# Altium footprint library Leadless.PcbLib: 132 footprints (part 6 of 9)
Each footprint in its own frame and in the unit in brackets; x right, y up, seen from the top. Pads: shape width x height; smd on the part's side, far side on the other; paste and mask are expansions set on the pad; w line width, h text height; cw(c..) or ccw(c..) is an arc to the next point about the centre after c.
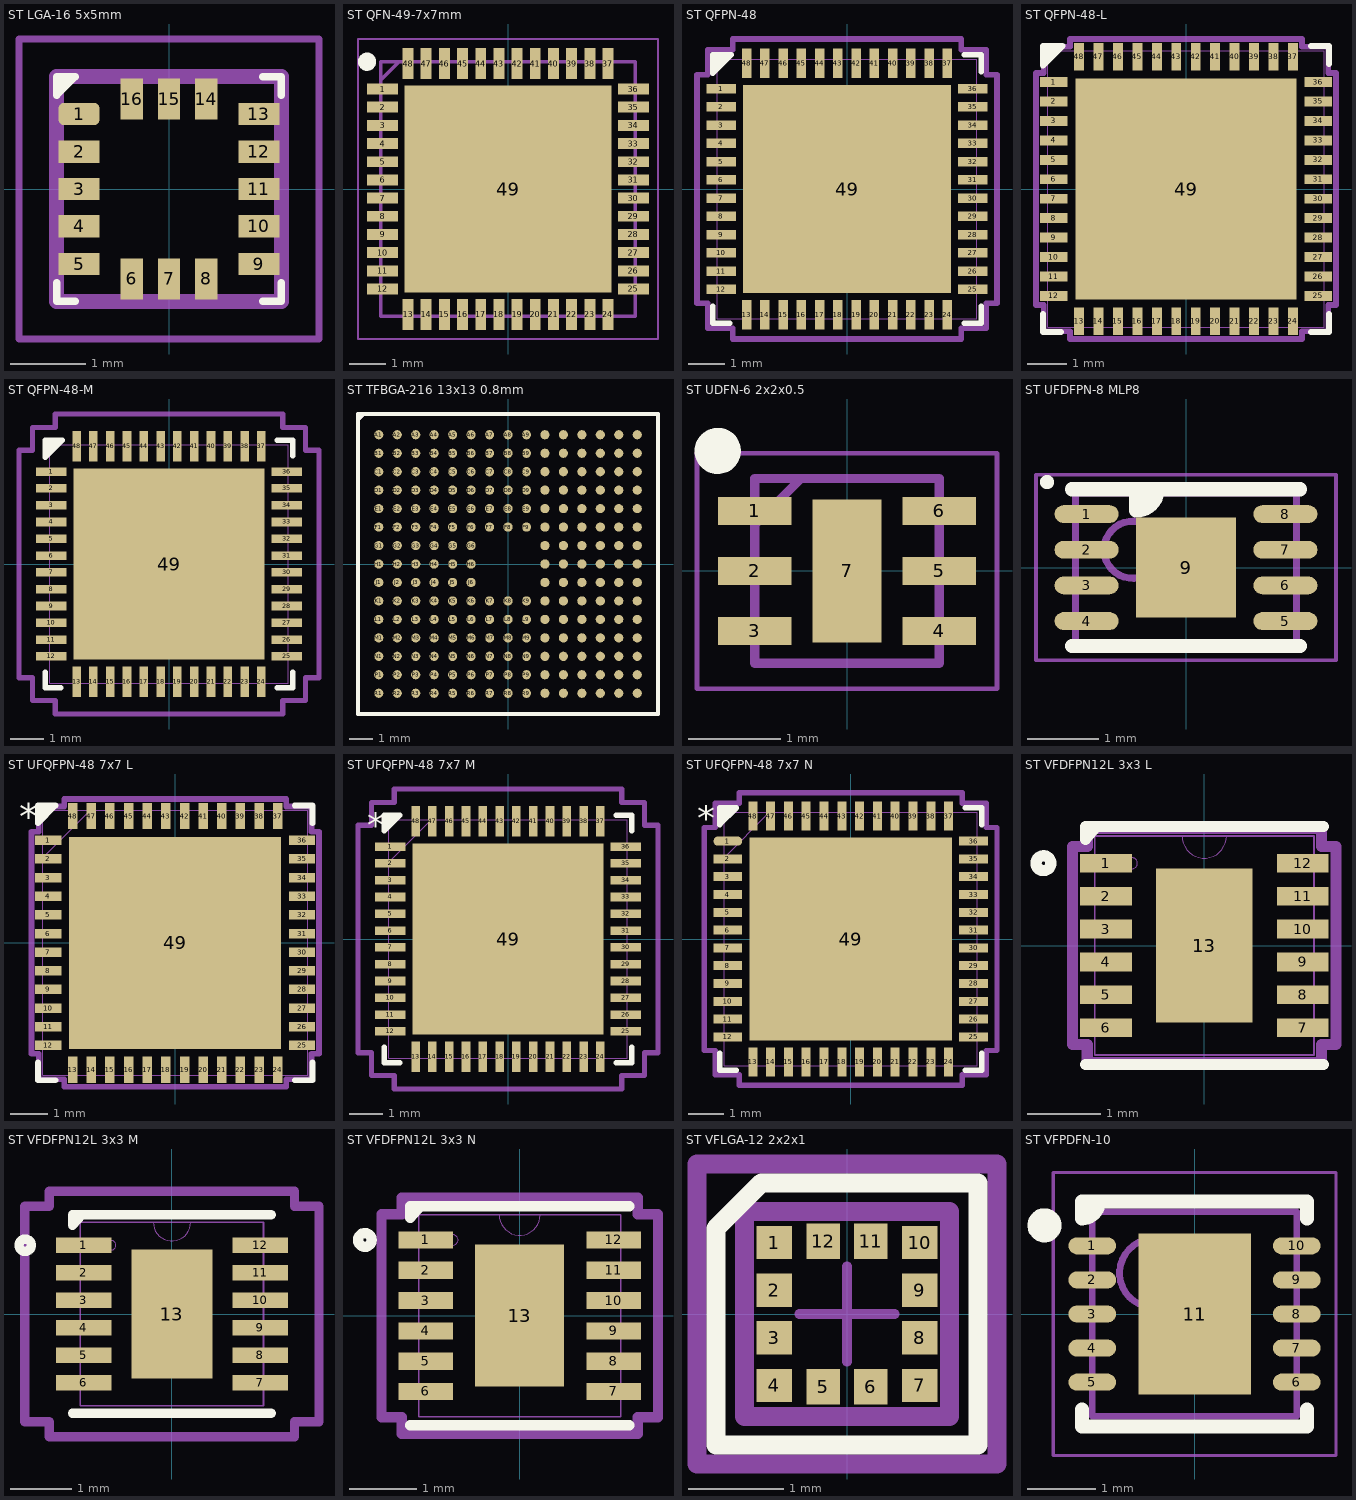
[diagram p5: the footprints below, top view; thin cyan lines are the x and y axes]

## ST LGA-16 5x5mm [mm]
height 1.7
pads (16):
  rrect50% 0.55x0.3 smd: 1(-1.2,1)
  rect 0.55x0.3 smd: 2(-1.2,0.5) 3(-1.2,0) 4(-1.2,-0.5) 5(-1.2,-1) 9(1.2,-1) 10(1.2,-0.5) 11(1.2,0) 12(1.2,0.5) 13(1.2,1)
  rect 0.3x0.55 smd: 6(-0.5,-1.2) 7(0,-1.2) 8(0.5,-1.2) 14(0.5,1.2) 15(0,1.2) 16(-0.5,1.2)
Top Overlay:
  lines w0.1: -1.5,-1.25 -1.5,-1.5 -1.25,-1.5 ; -1.375,1.5 -1.5,1.375 ; 1.25,-1.5 1.5,-1.5 1.5,-1.25 ; 1.25,1.5 1.5,1.5 1.5,1.25 ; -1.5,1.375 -1.5,1.375 ; -1.5,1.25 -1.25,1.5 -1.5,1.5 -1.5,1.25
Top Component Outline:
  lines w0.2: -1.5,-1.5 1.5,-1.5 1.5,1.5 -1.5,1.5 -1.5,-1.5
Top Courtyard:
  lines w0.1: -2,-2 2,-2 2,2 -2,2 -2,-2
3D body "User Library-LIS331AL.step": height 1.01, standoff -0.01, extent -1.5,-1.5 1.5,1.5

## ST QFN-49-7x7mm [mm]
pads (49):
  rect 0.85x0.3 smd: 1(-3.45,2.75) 2(-3.45,2.25) 3(-3.45,1.75) 4(-3.45,1.25) 5(-3.45,0.75) 6(-3.45,0.25) 7(-3.45,-0.25) 8(-3.45,-0.75) 9(-3.45,-1.25) 10(-3.45,-1.75) 11(-3.45,-2.25) 12(-3.45,-2.75) 25(3.45,-2.75) 26(3.45,-2.25) 27(3.45,-1.75) 28(3.45,-1.25) 29(3.45,-0.75) 30(3.45,-0.25) 31(3.45,0.25) 32(3.45,0.75) 33(3.45,1.25) 34(3.45,1.75) 35(3.45,2.25) 36(3.45,2.75)
  rect 0.3x0.85 smd: 13(-2.75,-3.45) 14(-2.25,-3.45) 15(-1.75,-3.45) 16(-1.25,-3.45) 17(-0.75,-3.45) 18(-0.25,-3.45) 19(0.25,-3.45) 20(0.75,-3.45) 21(1.25,-3.45) 22(1.75,-3.45) 23(2.25,-3.45) 24(2.75,-3.45) 37(2.75,3.45) 38(2.25,3.45) 39(1.75,3.45) 40(1.25,3.45) 41(0.75,3.45) 42(0.25,3.45) 43(-0.25,3.45) 44(-0.75,3.45) 45(-1.25,3.45) 46(-1.75,3.45) 47(-2.25,3.45) 48(-2.75,3.45)
  rect 5.7x5.7 smd: 49(0,0)
Top Overlay:
  circle w0.25: c-3.875,3.5 r0.125
Top Component Outline:
  lines w0.1: -3.5,3 -3,3.5 ; -3.5,-3.5 -3.5,3.5 3.5,3.5 3.5,-3.5 -3.5,-3.5
Top Courtyard:
  lines w0.05: -4.125,-4.125 -4.125,4.125 4.125,4.125 4.125,-4.125 -4.125,-4.125
3D body "STM32WL55CCU6.stp": height 0.65, standoff 0, extent -3.55,-3.55 3.55,3.55

## ST QFPN-48 [mil] "ST Microelectronics QFPN footprint"
height 23.62
pads (49):
  rect 31.81x10.03 smd paste+0 mask+0: 1(-135.91,108.3) 2(-135.91,88.61) 3(-135.91,68.92) 4(-135.91,49.23) 5(-135.91,29.54) 6(-135.91,9.85) 7(-135.91,-9.85) 8(-135.91,-29.54) 9(-135.91,-49.23) 10(-135.91,-68.92) 11(-135.91,-88.61) 12(-135.91,-108.3) 25(135.91,-108.3) 26(135.91,-88.61) 27(135.91,-68.92) 28(135.91,-49.23) 29(135.91,-29.54) 30(135.91,-9.85) 31(135.91,9.85) 32(135.91,29.54) 33(135.91,49.23) 34(135.91,68.92) 35(135.91,88.61) 36(135.91,108.3)
  rect 10.03x31.81 smd paste+0 mask+0: 13(-108.3,-135.91) 14(-88.61,-135.91) 15(-68.92,-135.91) 16(-49.23,-135.91) 17(-29.54,-135.91) 18(-9.85,-135.91) 19(9.85,-135.91) 20(29.54,-135.91) 21(49.23,-135.91) 22(68.92,-135.91) 23(88.61,-135.91) 24(108.3,-135.91) 37(108.3,135.91) 38(88.61,135.91) 39(68.92,135.91) 40(49.23,135.91) 41(29.54,135.91) 42(9.85,135.91) 43(-9.85,135.91) 44(-29.54,135.91) 45(-49.23,135.91) 46(-68.92,135.91) 47(-88.61,135.91) 48(-108.3,135.91)
  rect 224x224 smd paste-111.5 mask+0: 49(0,0)
Top Overlay:
  lines w5.98: -145,124.87 -124.87,145 ; -144.36,130.42 -130.42,144.36 ; -144.36,137.39 -137.39,144.36
  lines w6: -145,-126.41 -145,-145 -126.41,-145 ; -145,124.87 -145,145 -124.87,145 ; 126.41,-145 145,-145 145,-126.41 ; 126.41,145 145,145 145,126.41
Top Paste:
  region: 108.06,-59.94 59.94,-59.94 59.94,-108.06 108.06,-108.06
  region: 108.06,-3.94 59.94,-3.94 59.94,-52.06 108.06,-52.06
  region: 108.06,52.06 59.94,52.06 59.94,3.94 108.06,3.94
  region: 108.06,108.06 59.94,108.06 59.94,59.94 108.06,59.94
  region: 52.06,-59.94 3.94,-59.94 3.94,-108.06 52.06,-108.06
  region: 52.06,-3.94 3.94,-3.94 3.94,-52.06 52.06,-52.06
  region: 52.06,52.06 3.94,52.06 3.94,3.94 52.06,3.94
  region: 52.06,108.06 3.94,108.06 3.94,59.94 52.06,59.94
  region: -3.94,-59.94 -52.06,-59.94 -52.06,-108.06 -3.94,-108.06
  region: -3.94,-3.94 -52.06,-3.94 -52.06,-52.06 -3.94,-52.06
  region: -3.94,52.06 -52.06,52.06 -52.06,3.94 -3.94,3.94
  region: -3.94,108.06 -52.06,108.06 -52.06,59.94 -3.94,59.94
  region: -59.94,-59.94 -108.06,-59.94 -108.06,-108.06 -59.94,-108.06
  region: -59.94,-3.94 -108.06,-3.94 -108.06,-52.06 -59.94,-52.06
  region: -59.94,52.06 -108.06,52.06 -108.06,3.94 -59.94,3.94
  region: -59.94,108.06 -108.06,108.06 -108.06,59.94 -59.94,59.94
Assembly Notes:
  lines w1: -140,-140 -140,140 140,140 140,-140 -140,-140 ; -140,-114.3 -140,-102.3 -140,-114.3 ; -140,-94.61 -140,-82.61 -140,-94.61 ; -140,-74.92 -140,-62.91 -140,-74.92 ; -140,-55.23 -140,-43.23 -140,-55.23 ; -140,-35.53 -140,-23.54 -140,-35.53 ; -140,-15.85 -140,-3.85 -140,-15.85 ; -140,3.85 -140,15.85 -140,3.85 ; -140,23.54 -140,35.53 -140,23.54 ; -140,43.23 -140,55.23 -140,43.23 ; -140,62.91 -140,74.92 -140,62.91 ; -140,82.61 -140,94.61 -140,82.61 ; -140,102.3 -140,114.3 -140,102.3 ; -114.3,-140 -102.3,-140 -114.3,-140 ; -114.3,140 -102.3,140 -114.3,140 ; -94.61,-140 -82.61,-140 -94.61,-140 ; -94.61,140 -82.61,140 -94.61,140 ; -74.92,-140 -62.91,-140 -74.92,-140 ; -74.92,140 -62.91,140 -74.92,140 ; -55.23,-140 -43.23,-140 -55.23,-140 ; -55.23,140 -43.23,140 -55.23,140 ; -35.53,-140 -23.54,-140 -35.53,-140 ; -35.53,140 -23.54,140 -35.53,140 ; -15.85,-140 -3.85,-140 -15.85,-140 ; -15.85,140 -3.85,140 -15.85,140 ; 3.85,-140 15.85,-140 3.85,-140 ; 3.85,140 15.85,140 3.85,140 ; 23.54,-140 35.53,-140 23.54,-140 ; 23.54,140 35.53,140 23.54,140 ; 43.23,-140 55.23,-140 43.23,-140 ; 43.23,140 55.23,140 43.23,140 ; 62.91,-140 74.92,-140 62.91,-140 ; 62.91,140 74.92,140 62.91,140 ; 82.61,-140 94.61,-140 82.61,-140 ; 82.61,140 94.61,140 82.61,140 ; 102.3,-140 114.3,-140 102.3,-140 ; 102.3,140 114.3,140 102.3,140 ; 140,-114.3 140,-102.3 140,-114.3 ; 140,-94.61 140,-82.61 140,-94.61 ; 140,-74.92 140,-62.91 140,-74.92 ; 140,-55.23 140,-43.23 140,-55.23 ; 140,-35.53 140,-23.54 140,-35.53 ; 140,-15.85 140,-3.85 140,-15.85 ; 140,3.85 140,15.85 140,3.85 ; 140,23.54 140,35.53 140,23.54 ; 140,43.23 140,55.23 140,43.23 ; 140,62.91 140,74.92 140,62.91 ; 140,82.61 140,94.61 140,82.61 ; 140,102.3 140,114.3 140,102.3
Dimensions:
  lines w6: -161.81,-123.31 -161.81,123.31 -150,123.31 -150,150 -123.31,150 -123.31,161.81 123.31,161.81 123.31,150 150,150 150,123.31 161.81,123.31 161.81,-123.31 150,-123.31 150,-150 123.31,-150 123.31,-161.81 -123.31,-161.81 -123.31,-150 -150,-150 -150,-123.31 -161.81,-123.31
3D body "ST QFN-48.step": height 24.09, standoff 0, extent -140,-139.99 140,140.01
3D body: height 10, standoff 0, extent 0,0 10,10

## ST QFPN-48-L [mil] "ST Microelectronics QFPN footprint"
height 23.62
pads (49):
  rect 27.87x10.03 smd paste+0 mask+0: 1(-133.94,108.3) 2(-133.94,88.61) 3(-133.94,68.92) 4(-133.94,49.23) 5(-133.94,29.54) 6(-133.94,9.85) 7(-133.94,-9.85) 8(-133.94,-29.54) 9(-133.94,-49.23) 10(-133.94,-68.92) 11(-133.94,-88.61) 12(-133.94,-108.3) 25(133.94,-108.3) 26(133.94,-88.61) 27(133.94,-68.92) 28(133.94,-49.23) 29(133.94,-29.54) 30(133.94,-9.85) 31(133.94,9.85) 32(133.94,29.54) 33(133.94,49.23) 34(133.94,68.92) 35(133.94,88.61) 36(133.94,108.3)
  rect 10.03x27.87 smd paste+0 mask+0: 13(-108.3,-133.94) 14(-88.61,-133.94) 15(-68.92,-133.94) 16(-49.23,-133.94) 17(-29.54,-133.94) 18(-9.85,-133.94) 19(9.85,-133.94) 20(29.54,-133.94) 21(49.23,-133.94) 22(68.92,-133.94) 23(88.61,-133.94) 24(108.3,-133.94) 37(108.3,133.94) 38(88.61,133.94) 39(68.92,133.94) 40(49.23,133.94) 41(29.54,133.94) 42(9.85,133.94) 43(-9.85,133.94) 44(-29.54,133.94) 45(-49.23,133.94) 46(-68.92,133.94) 47(-88.61,133.94) 48(-108.3,133.94)
  rect 224x224 smd paste-111.5 mask+0: 49(0,0)
Top Overlay:
  lines w5.98: -145,124.87 -124.87,145 ; -144.36,130.42 -130.42,144.36 ; -144.36,137.39 -137.39,144.36
  lines w6: -145,-126.41 -145,-145 -126.41,-145 ; -145,124.87 -145,145 -124.87,145 ; 126.41,-145 145,-145 145,-126.41 ; 126.41,145 145,145 145,126.41
Top Paste:
  region: -59.94,108.06 -108.06,108.06 -108.06,59.94 -59.94,59.94
  region: -59.94,52.06 -108.06,52.06 -108.06,3.94 -59.94,3.94
  region: -59.94,-3.94 -108.06,-3.94 -108.06,-52.06 -59.94,-52.06
  region: -59.94,-59.94 -108.06,-59.94 -108.06,-108.06 -59.94,-108.06
  region: -3.94,108.06 -52.06,108.06 -52.06,59.94 -3.94,59.94
  region: -3.94,52.06 -52.06,52.06 -52.06,3.94 -3.94,3.94
  region: -3.94,-3.94 -52.06,-3.94 -52.06,-52.06 -3.94,-52.06
  region: -3.94,-59.94 -52.06,-59.94 -52.06,-108.06 -3.94,-108.06
  region: 52.06,108.06 3.94,108.06 3.94,59.94 52.06,59.94
  region: 52.06,52.06 3.94,52.06 3.94,3.94 52.06,3.94
  region: 52.06,-3.94 3.94,-3.94 3.94,-52.06 52.06,-52.06
  region: 52.06,-59.94 3.94,-59.94 3.94,-108.06 52.06,-108.06
  region: 108.06,108.06 59.94,108.06 59.94,59.94 108.06,59.94
  region: 108.06,52.06 59.94,52.06 59.94,3.94 108.06,3.94
  region: 108.06,-3.94 59.94,-3.94 59.94,-52.06 108.06,-52.06
  region: 108.06,-59.94 59.94,-59.94 59.94,-108.06 108.06,-108.06
Assembly Notes:
  lines w1: -140,-140 140,-140 140,140 -140,140 -140,-140 ; -140,-114.3 -140,-102.3 -140,-114.3 ; -140,-94.61 -140,-82.61 -140,-94.61 ; -140,-74.92 -140,-62.91 -140,-74.92 ; -140,-55.23 -140,-43.23 -140,-55.23 ; -140,-35.53 -140,-23.54 -140,-35.53 ; -140,-15.85 -140,-3.85 -140,-15.85 ; -140,3.85 -140,15.85 -140,3.85 ; -140,23.54 -140,35.53 -140,23.54 ; -140,43.23 -140,55.23 -140,43.23 ; -140,62.91 -140,74.92 -140,62.91 ; -140,82.61 -140,94.61 -140,82.61 ; -140,102.3 -140,114.3 -140,102.3 ; -114.3,-140 -102.3,-140 -114.3,-140 ; -114.3,140 -102.3,140 -114.3,140 ; -94.61,-140 -82.61,-140 -94.61,-140 ; -94.61,140 -82.61,140 -94.61,140 ; -74.92,-140 -62.91,-140 -74.92,-140 ; -74.92,140 -62.91,140 -74.92,140 ; -55.23,-140 -43.23,-140 -55.23,-140 ; -55.23,140 -43.23,140 -55.23,140 ; -35.53,-140 -23.54,-140 -35.53,-140 ; -35.53,140 -23.54,140 -35.53,140 ; -15.85,-140 -3.85,-140 -15.85,-140 ; -15.85,140 -3.85,140 -15.85,140 ; 3.85,-140 15.85,-140 3.85,-140 ; 3.85,140 15.85,140 3.85,140 ; 23.54,-140 35.53,-140 23.54,-140 ; 23.54,140 35.53,140 23.54,140 ; 43.23,-140 55.23,-140 43.23,-140 ; 43.23,140 55.23,140 43.23,140 ; 62.91,-140 74.92,-140 62.91,-140 ; 62.91,140 74.92,140 62.91,140 ; 82.61,-140 94.61,-140 82.61,-140 ; 82.61,140 94.61,140 82.61,140 ; 102.3,-140 114.3,-140 102.3,-140 ; 102.3,140 114.3,140 102.3,140 ; 140,-114.3 140,-102.3 140,-114.3 ; 140,-94.61 140,-82.61 140,-94.61 ; 140,-74.92 140,-62.91 140,-74.92 ; 140,-55.23 140,-43.23 140,-55.23 ; 140,-35.53 140,-23.54 140,-35.53 ; 140,-15.85 140,-3.85 140,-15.85 ; 140,3.85 140,15.85 140,3.85 ; 140,23.54 140,35.53 140,23.54 ; 140,43.23 140,55.23 140,43.23 ; 140,62.91 140,74.92 140,62.91 ; 140,82.61 140,94.61 140,82.61 ; 140,102.3 140,114.3 140,102.3
Dimensions:
  lines w6: -151.87,-117.31 -144,-117.31 -144,-144 -117.31,-144 -117.31,-151.87 117.31,-151.87 117.31,-144 144,-144 144,-117.31 151.87,-117.31 151.87,117.31 144,117.31 144,144 117.31,144 117.31,151.87 -117.31,151.87 -117.31,144 -144,144 -144,117.31 -151.87,117.31 -151.87,-117.31
3D body: height 10, standoff 0, extent 0,0 10,10
3D body "ST QFN-48.step": height 24.09, standoff 0, extent -139.99,-139.99 140.01,140.01

## ST QFPN-48-M [mil] "ST Microelectronics QFPN footprint"
height 23.62
pads (49):
  rect 35.75x10.03 smd paste+0 mask+0: 1(-137.87,108.3) 2(-137.87,88.61) 3(-137.87,68.92) 4(-137.87,49.23) 5(-137.87,29.54) 6(-137.87,9.85) 7(-137.87,-9.85) 8(-137.87,-29.54) 9(-137.87,-49.23) 10(-137.87,-68.92) 11(-137.87,-88.61) 12(-137.87,-108.3) 25(137.87,-108.3) 26(137.87,-88.61) 27(137.87,-68.92) 28(137.87,-49.23) 29(137.87,-29.54) 30(137.87,-9.85) 31(137.87,9.85) 32(137.87,29.54) 33(137.87,49.23) 34(137.87,68.92) 35(137.87,88.61) 36(137.87,108.3)
  rect 10.03x35.75 smd paste+0 mask+0: 13(-108.3,-137.87) 14(-88.61,-137.87) 15(-68.92,-137.87) 16(-49.23,-137.87) 17(-29.54,-137.87) 18(-9.85,-137.87) 19(9.85,-137.87) 20(29.54,-137.87) 21(49.23,-137.87) 22(68.92,-137.87) 23(88.61,-137.87) 24(108.3,-137.87) 37(108.3,137.87) 38(88.61,137.87) 39(68.92,137.87) 40(49.23,137.87) 41(29.54,137.87) 42(9.85,137.87) 43(-9.85,137.87) 44(-29.54,137.87) 45(-49.23,137.87) 46(-68.92,137.87) 47(-88.61,137.87) 48(-108.3,137.87)
  rect 224x224 smd paste-111.5 mask+0: 49(0,0)
Top Overlay:
  lines w5.98: -145,124.87 -124.87,145 ; -144.36,130.42 -130.42,144.36 ; -144.36,137.39 -137.39,144.36
  lines w6: -145,-126.41 -145,-145 -126.41,-145 ; -145,124.87 -145,145 -124.87,145 ; 126.41,-145 145,-145 145,-126.41 ; 126.41,145 145,145 145,126.41
Top Paste:
  region: 108.06,-59.94 59.94,-59.94 59.94,-108.06 108.06,-108.06
  region: 108.06,-3.94 59.94,-3.94 59.94,-52.06 108.06,-52.06
  region: 108.06,52.06 59.94,52.06 59.94,3.94 108.06,3.94
  region: 108.06,108.06 59.94,108.06 59.94,59.94 108.06,59.94
  region: 52.06,-59.94 3.94,-59.94 3.94,-108.06 52.06,-108.06
  region: 52.06,-3.94 3.94,-3.94 3.94,-52.06 52.06,-52.06
  region: 52.06,52.06 3.94,52.06 3.94,3.94 52.06,3.94
  region: 52.06,108.06 3.94,108.06 3.94,59.94 52.06,59.94
  region: -3.94,-59.94 -52.06,-59.94 -52.06,-108.06 -3.94,-108.06
  region: -3.94,-3.94 -52.06,-3.94 -52.06,-52.06 -3.94,-52.06
  region: -3.94,52.06 -52.06,52.06 -52.06,3.94 -3.94,3.94
  region: -3.94,108.06 -52.06,108.06 -52.06,59.94 -3.94,59.94
  region: -59.94,-59.94 -108.06,-59.94 -108.06,-108.06 -59.94,-108.06
  region: -59.94,-3.94 -108.06,-3.94 -108.06,-52.06 -59.94,-52.06
  region: -59.94,52.06 -108.06,52.06 -108.06,3.94 -59.94,3.94
  region: -59.94,108.06 -108.06,108.06 -108.06,59.94 -59.94,59.94
Assembly Notes:
  lines w1: -140,-140 -140,140 140,140 140,-140 -140,-140 ; -140,-114.3 -140,-102.3 -140,-114.3 ; -140,-94.61 -140,-82.61 -140,-94.61 ; -140,-74.92 -140,-62.91 -140,-74.92 ; -140,-55.23 -140,-43.23 -140,-55.23 ; -140,-35.53 -140,-23.54 -140,-35.53 ; -140,-15.85 -140,-3.85 -140,-15.85 ; -140,3.85 -140,15.85 -140,3.85 ; -140,23.54 -140,35.53 -140,23.54 ; -140,43.23 -140,55.23 -140,43.23 ; -140,62.91 -140,74.92 -140,62.91 ; -140,82.61 -140,94.61 -140,82.61 ; -140,102.3 -140,114.3 -140,102.3 ; -114.3,-140 -102.3,-140 -114.3,-140 ; -114.3,140 -102.3,140 -114.3,140 ; -94.61,-140 -82.61,-140 -94.61,-140 ; -94.61,140 -82.61,140 -94.61,140 ; -74.92,-140 -62.91,-140 -74.92,-140 ; -74.92,140 -62.91,140 -74.92,140 ; -55.23,-140 -43.23,-140 -55.23,-140 ; -55.23,140 -43.23,140 -55.23,140 ; -35.53,-140 -23.54,-140 -35.53,-140 ; -35.53,140 -23.54,140 -35.53,140 ; -15.85,-140 -3.85,-140 -15.85,-140 ; -15.85,140 -3.85,140 -15.85,140 ; 3.85,-140 15.85,-140 3.85,-140 ; 3.85,140 15.85,140 3.85,140 ; 23.54,-140 35.53,-140 23.54,-140 ; 23.54,140 35.53,140 23.54,140 ; 43.23,-140 55.23,-140 43.23,-140 ; 43.23,140 55.23,140 43.23,140 ; 62.91,-140 74.92,-140 62.91,-140 ; 62.91,140 74.92,140 62.91,140 ; 82.61,-140 94.61,-140 82.61,-140 ; 82.61,140 94.61,140 82.61,140 ; 102.3,-140 114.3,-140 102.3,-140 ; 102.3,140 114.3,140 102.3,140 ; 140,-114.3 140,-102.3 140,-114.3 ; 140,-94.61 140,-82.61 140,-94.61 ; 140,-74.92 140,-62.91 140,-74.92 ; 140,-55.23 140,-43.23 140,-55.23 ; 140,-35.53 140,-23.54 140,-35.53 ; 140,-15.85 140,-3.85 140,-15.85 ; 140,3.85 140,15.85 140,3.85 ; 140,23.54 140,35.53 140,23.54 ; 140,43.23 140,55.23 140,43.23 ; 140,62.91 140,74.92 140,62.91 ; 140,82.61 140,94.61 140,82.61 ; 140,102.3 140,114.3 140,102.3
Dimensions:
  lines w6: -175.75,-133.31 -175.75,133.31 -160,133.31 -160,160 -133.31,160 -133.31,175.75 133.31,175.75 133.31,160 160,160 160,133.31 175.75,133.31 175.75,-133.31 160,-133.31 160,-160 133.31,-160 133.31,-175.75 -133.31,-175.75 -133.31,-160 -160,-160 -160,-133.31 -175.75,-133.31
3D body: height 10, standoff 0, extent 0,0 10,10
3D body "ST QFN-48.step": height 24.09, standoff 0, extent -139.99,-139.99 140.01,140.01

## ST TFBGA-216 13x13 0.8mm [mm] "TFBGA216, 13 × 13 × 0.8 mm thin fine-pitch ball grid array"
height 1.1
pads (216):
  round 0.4 smd paste+0 mask+0.038: A1(-5.601,5.6) A2(-4.801,5.6) A3(-4,5.6) A4(-3.2,5.6) A5(-2.4,5.6) A6(-1.6,5.6) A7(-0.8,5.6) A8(0,5.6) A9(0.8,5.6) A10(1.6,5.6) A11(2.4,5.6) A12(3.2,5.6) A13(4,5.6) A14(4.801,5.6) A15(5.601,5.6) B1(-5.601,4.8) B2(-4.801,4.8) B3(-4,4.8) B4(-3.2,4.8) B5(-2.4,4.8) B6(-1.6,4.8) B7(-0.8,4.8) B8(0,4.8) B9(0.8,4.8) B10(1.6,4.8) B11(2.4,4.8) B12(3.2,4.8) B13(4,4.8) B14(4.801,4.8) B15(5.601,4.8) C1(-5.601,4) C2(-4.801,4) C3(-4,4) C4(-3.2,4) C5(-2.4,4) C6(-1.6,4) C7(-0.8,4) C8(0,4) C9(0.8,4) C10(1.6,4) C11(2.4,4) C12(3.2,4) C13(4,4) C14(4.801,4) C15(5.601,4) D1(-5.601,3.2) D2(-4.801,3.2) D3(-4,3.2) D4(-3.2,3.2) D5(-2.4,3.2) D6(-1.6,3.2) D7(-0.8,3.2) D8(0,3.2) D9(0.8,3.2) D10(1.6,3.2) D11(2.4,3.2) D12(3.2,3.2) D13(4,3.2) D14(4.801,3.2) D15(5.601,3.2) E1(-5.601,2.4) E2(-4.801,2.4) E3(-4,2.4) E4(-3.2,2.4) E5(-2.4,2.4) E6(-1.6,2.4) E7(-0.8,2.4) E8(0,2.4) E9(0.8,2.4) E10(1.6,2.4) E11(2.4,2.4) E12(3.2,2.4) E13(4,2.4) E14(4.801,2.4) E15(5.601,2.4) F1(-5.601,1.6) F2(-4.801,1.6) F3(-4,1.6) F4(-3.2,1.6) F5(-2.4,1.6) F6(-1.6,1.6) F7(-0.8,1.6) F8(0,1.6) F9(0.8,1.6) F10(1.6,1.6) F11(2.4,1.6) F12(3.2,1.6) F13(4,1.6) F14(4.801,1.6) F15(5.601,1.6) G1(-5.601,0.8) G2(-4.801,0.8) G3(-4,0.8) G4(-3.2,0.8) G5(-2.4,0.8) G6(-1.6,0.8) G10(1.6,0.8) G11(2.4,0.8) G12(3.2,0.8) G13(4,0.8) G14(4.801,0.8) G15(5.601,0.8) H1(-5.601,0) H2(-4.801,0) H3(-4,0) H4(-3.2,0) H5(-2.4,0) H6(-1.6,0) H10(1.6,0) H11(2.4,0) H12(3.2,0) H13(4,0) H14(4.801,0) H15(5.601,0) J1(-5.601,-0.8) J2(-4.801,-0.8) J3(-4,-0.8) J4(-3.2,-0.8) J5(-2.4,-0.8) J6(-1.6,-0.8) J10(1.6,-0.8) J11(2.4,-0.8) J12(3.2,-0.8) J13(4,-0.8) J14(4.801,-0.8) J15(5.601,-0.8) K1(-5.601,-1.6) K2(-4.801,-1.6) K3(-4,-1.6) K4(-3.2,-1.6) K5(-2.4,-1.6) K6(-1.6,-1.6) K7(-0.8,-1.6) K8(0,-1.6) K9(0.8,-1.6) K10(1.6,-1.6) K11(2.4,-1.6) K12(3.2,-1.6) K13(4,-1.6) K14(4.801,-1.6) K15(5.601,-1.6) L1(-5.601,-2.4) L2(-4.801,-2.4) L3(-4,-2.4) L4(-3.2,-2.4) L5(-2.4,-2.4) L6(-1.6,-2.4) L7(-0.8,-2.4) L8(0,-2.4) L9(0.8,-2.4) L10(1.6,-2.4) L11(2.4,-2.4) L12(3.2,-2.4) L13(4,-2.4) L14(4.801,-2.4) L15(5.601,-2.4) M1(-5.601,-3.2) M2(-4.801,-3.2) M3(-4,-3.2) M4(-3.2,-3.2) M5(-2.4,-3.2) M6(-1.6,-3.2) M7(-0.8,-3.2) M8(0,-3.2) M9(0.8,-3.2) M10(1.6,-3.2) M11(2.4,-3.2) M12(3.2,-3.2) M13(4,-3.2) M14(4.801,-3.2) M15(5.601,-3.2) N1(-5.601,-4) N2(-4.801,-4) N3(-4,-4) N4(-3.2,-4) N5(-2.4,-4) N6(-1.6,-4) N7(-0.8,-4) N8(0,-4) N9(0.8,-4) N10(1.6,-4) N11(2.4,-4) N12(3.2,-4) N13(4,-4) N14(4.801,-4) N15(5.601,-4) P1(-5.601,-4.8) P2(-4.801,-4.8) P3(-4,-4.8) P4(-3.2,-4.8) P5(-2.4,-4.8) P6(-1.6,-4.8) P7(-0.8,-4.8) P8(0,-4.8) P9(0.8,-4.8) P10(1.6,-4.8) P11(2.4,-4.8) P12(3.2,-4.8) P13(4,-4.8) P14(4.801,-4.8) P15(5.601,-4.8) R1(-5.601,-5.6) R2(-4.801,-5.6) R3(-4,-5.6) R4(-3.2,-5.6) R5(-2.4,-5.6) R6(-1.6,-5.6) R7(-0.8,-5.6) R8(0,-5.6) R9(0.8,-5.6) R10(1.6,-5.6) R11(2.4,-5.6) R12(3.2,-5.6) R13(4,-5.6) R14(4.801,-5.6) R15(5.601,-5.6)
Top Overlay:
  lines w0.152: -6.5,6.25 -6.25,6.5 ; -6.5,-6.5 -6.5,6.5 6.5,6.5 6.5,-6.5 -6.5,-6.5
Top Component Outline:
  lines w0.152: -6.5,6.25 -6.25,6.5 ; -6.5,-6.5 -6.5,6.5 6.5,6.5 6.5,-6.5 -6.5,-6.5
Top Courtyard:
  lines w0.152: -6.5,6.25 -6.25,6.5 ; -6.5,-6.5 6.5,-6.5 6.5,6.5 -6.5,6.5 -6.5,-6.5
3D body "ST TFBGA-216 13x13 0.8mm thin fine pitch.STEP": height 0.94, standoff -0.02, extent -6.5,-6.5 6.5,6.5

## ST UDFN-6 2x2x0.5 [mm] "UDFN-6L (2.0 x 2.0 x 0.50 mm)"
height 0.55
pads (7):
  rect 0.8x0.3 smd: 1(-1,0.65) 2(-1,0) 3(-1,-0.65) 4(1,-0.65) 5(1,0) 6(1,0.65)
  rect 0.75x1.55 smd: 7(0,0)
Top Overlay:
  circle w0.25: c-1.4,1.3 r0.125
Top Component Outline:
  lines w0.1: -1,0.5 -0.5,1 ; -1,-1 1,-1 1,1 -1,1 -1,-1
Top Courtyard:
  lines w0.05: -1.625,-1.275 1.625,-1.275 1.625,1.275 -1.625,1.275 -1.625,-1.275
3D body "UDFN-6-2x2.step": height 0.64, standoff -0.01, extent -1,-1 1,1

## ST UFDFPN-8 MLP8 [mm] "UFDFPN, 8-Leads, Body 2.00x3.00mm, Pitch 0.50mm, Thermal Pad 1.40x1.40mm, IPC Medium Density"
height 0.6
pads (9):
  oval 0.9x0.25 smd: 1(-1.395,0.75) 2(-1.395,0.25) 3(-1.395,-0.25) 4(-1.395,-0.75) 5(1.395,-0.75) 6(1.395,-0.25) 7(1.395,0.25) 8(1.395,0.75)
  rect 1.4x1.4 smd mask+0: 9(0,0)
Top Overlay:
  circle w0.1: c-1.95,1.2 r0.05
  region: -0.4,1.1 -0.7,1.1 -0.7,0.8 -0.64,0.8 -0.53,0.846 -0.446,0.93 -0.4,1.04
  lines w0.2: -1.6,-1.1 1.6,-1.1 ; -1.6,1.1 1.6,1.1 ; -0.7,1.1 -0.7,0.8 ; -0.4,1.1 cw(c-0.7,1.1) -0.7,0.8 ; -0.7,0.8 -0.7,0.8
Top Component Outline:
  circle w0.1: c-0.75,0.25 r0.4
  lines w0.1: -1.55,-1.05 -1.55,1.05 1.55,1.05 1.55,-1.05 -1.55,-1.05
Top Courtyard:
  lines w0.05: -2.105,-1.3 -2.105,1.3 2.105,1.3 2.105,-1.3 -2.105,-1.3
  lines w0.1: -0.5,0 0.5,0 ; 0,-0.5 0,0.5
3D body: height 0.6, standoff 0, extent -1.55,-1.05 1.55,1.05

## ST UFQFPN-48 7x7 L [mm]
pads (49):
  rect 0.708x0.255 smd paste+0 mask+0: 1(-3.402,2.75) 2(-3.402,2.25) 3(-3.402,1.75) 4(-3.402,1.25) 5(-3.402,0.75) 6(-3.402,0.25) 7(-3.402,-0.25) 8(-3.402,-0.75) 9(-3.402,-1.25) 10(-3.402,-1.75) 11(-3.402,-2.25) 12(-3.402,-2.75) 25(3.402,-2.75) 26(3.402,-2.25) 27(3.402,-1.75) 28(3.402,-1.25) 29(3.402,-0.75) 30(3.402,-0.25) 31(3.402,0.25) 32(3.402,0.75) 33(3.402,1.25) 34(3.402,1.75) 35(3.402,2.25) 36(3.402,2.75)
  rect 0.255x0.708 smd paste+0 mask+0: 13(-2.75,-3.402) 14(-2.25,-3.402) 15(-1.75,-3.402) 16(-1.25,-3.402) 17(-0.75,-3.402) 18(-0.25,-3.402) 19(0.25,-3.402) 20(0.75,-3.402) 21(1.25,-3.402) 22(1.75,-3.402) 23(2.25,-3.402) 24(2.75,-3.402) 37(2.75,3.402) 38(2.25,3.402) 39(1.75,3.402) 40(1.25,3.402) 41(0.75,3.402) 42(0.25,3.402) 43(-0.25,3.402) 44(-0.75,3.402) 45(-1.25,3.402) 46(-1.75,3.402) 47(-2.25,3.402) 48(-2.75,3.402)
  rect 5.69x5.69 smd paste-2.832 mask+0: 49(0,0)
Top Overlay:
  lines w0.152: -3.683,-3.21 -3.683,-3.683 -3.21,-3.683 ; -3.683,3.447 -3.447,3.447 ; -3.447,3.683 -3.447,3.447 ; 3.21,-3.683 3.683,-3.683 3.683,-3.21 ; 3.21,3.683 3.683,3.683 3.683,3.21 ; -3.683,3.683 -3.447,3.447 ; -3.683,3.683 -3.21,3.683 -3.683,3.21 -3.683,3.683
  text "*" at -4.191,2.794 h1.27
Top Paste:
  region: -1.522,2.745 -2.745,2.745 -2.745,1.522 -1.522,1.522
  region: -1.522,1.322 -2.745,1.322 -2.745,0.1 -1.522,0.1
  region: -1.522,-0.1 -2.745,-0.1 -2.745,-1.322 -1.522,-1.322
  region: -1.522,-1.522 -2.745,-1.522 -2.745,-2.745 -1.522,-2.745
  region: -0.1,2.745 -1.322,2.745 -1.322,1.522 -0.1,1.522
  region: -0.1,1.322 -1.322,1.322 -1.322,0.1 -0.1,0.1
  region: -0.1,-0.1 -1.322,-0.1 -1.322,-1.322 -0.1,-1.322
  region: -0.1,-1.522 -1.322,-1.522 -1.322,-2.745 -0.1,-2.745
  region: 1.322,2.745 0.1,2.745 0.1,1.522 1.322,1.522
  region: 1.322,1.322 0.1,1.322 0.1,0.1 1.322,0.1
  region: 1.322,-0.1 0.1,-0.1 0.1,-1.322 1.322,-1.322
  region: 1.322,-1.522 0.1,-1.522 0.1,-2.745 1.322,-2.745
  region: 2.745,2.745 1.522,2.745 1.522,1.522 2.745,1.522
  region: 2.745,1.322 1.522,1.322 1.522,0.1 2.745,0.1
  region: 2.745,-0.1 1.522,-0.1 1.522,-1.322 2.745,-1.322
  region: 2.745,-1.522 1.522,-1.522 1.522,-2.745 2.745,-2.745
Assembly Notes:
  lines w0.025: -3.556,2.286 -2.286,3.556 ; -3.556,-3.556 3.556,-3.556 3.556,3.556 -3.556,3.556 -3.556,-3.556 ; -3.556,-2.902 -3.556,-2.598 -3.556,-2.902 ; -3.556,-2.402 -3.556,-2.098 -3.556,-2.402 ; -3.556,-1.902 -3.556,-1.598 -3.556,-1.902 ; -3.556,-1.402 -3.556,-1.098 -3.556,-1.402 ; -3.556,-0.902 -3.556,-0.598 -3.556,-0.902 ; -3.556,-0.402 -3.556,-0.098 -3.556,-0.402 ; -3.556,0.098 -3.556,0.402 -3.556,0.098 ; -3.556,0.598 -3.556,0.902 -3.556,0.598 ; -3.556,1.098 -3.556,1.402 -3.556,1.098 ; -3.556,1.598 -3.556,1.902 -3.556,1.598 ; -3.556,2.098 -3.556,2.402 -3.556,2.098 ; -3.556,2.598 -3.556,2.902 -3.556,2.598 ; -2.902,-3.556 -2.598,-3.556 -2.902,-3.556 ; -2.902,3.556 -2.598,3.556 -2.902,3.556 ; -2.402,-3.556 -2.098,-3.556 -2.402,-3.556 ; -2.402,3.556 -2.098,3.556 -2.402,3.556 ; -1.902,-3.556 -1.598,-3.556 -1.902,-3.556 ; -1.902,3.556 -1.598,3.556 -1.902,3.556 ; -1.402,-3.556 -1.098,-3.556 -1.402,-3.556 ; -1.402,3.556 -1.098,3.556 -1.402,3.556 ; -0.902,-3.556 -0.598,-3.556 -0.902,-3.556 ; -0.902,3.556 -0.598,3.556 -0.902,3.556 ; -0.402,-3.556 -0.098,-3.556 -0.402,-3.556 ; -0.402,3.556 -0.098,3.556 -0.402,3.556 ; 0.098,-3.556 0.402,-3.556 0.098,-3.556 ; 0.098,3.556 0.402,3.556 0.098,3.556 ; 0.598,-3.556 0.902,-3.556 0.598,-3.556 ; 0.598,3.556 0.902,3.556 0.598,3.556 ; 1.098,-3.556 1.402,-3.556 1.098,-3.556 ; 1.098,3.556 1.402,3.556 1.098,3.556 ; 1.598,-3.556 1.902,-3.556 1.598,-3.556 ; 1.598,3.556 1.902,3.556 1.598,3.556 ; 2.098,-3.556 2.402,-3.556 2.098,-3.556 ; 2.098,3.556 2.402,3.556 2.098,3.556 ; 2.598,-3.556 2.902,-3.556 2.598,-3.556 ; 2.598,3.556 2.902,3.556 2.598,3.556 ; 3.556,-2.902 3.556,-2.598 3.556,-2.902 ; 3.556,-2.402 3.556,-2.098 3.556,-2.402 ; 3.556,-1.902 3.556,-1.598 3.556,-1.902 ; 3.556,-1.402 3.556,-1.098 3.556,-1.402 ; 3.556,-0.902 3.556,-0.598 3.556,-0.902 ; 3.556,-0.402 3.556,-0.098 3.556,-0.402 ; 3.556,0.098 3.556,0.402 3.556,0.098 ; 3.556,0.598 3.556,0.902 3.556,0.598 ; 3.556,1.098 3.556,1.402 3.556,1.098 ; 3.556,1.598 3.556,1.902 3.556,1.598 ; 3.556,2.098 3.556,2.402 3.556,2.098 ; 3.556,2.598 3.556,2.902 3.556,2.598
Dimensions:
  lines w0.152: -3.858,-2.979 -3.658,-2.979 -3.658,-3.658 -2.979,-3.658 -2.979,-3.858 2.979,-3.858 2.979,-3.658 3.658,-3.658 3.658,-2.979 3.858,-2.979 3.858,2.979 3.658,2.979 3.658,3.658 2.979,3.658 2.979,3.858 -2.979,3.858 -2.979,3.658 -3.658,3.658 -3.658,2.979 -3.858,2.979 -3.858,-2.979
3D body "UFQFPN-48_7X7X0P55MM.step": height 0.61, standoff 0, extent -3.556,-3.556 3.556,3.556

## ST UFQFPN-48 7x7 M [mm]
pads (49):
  rect 0.908x0.255 smd paste+0 mask+0: 1(-3.502,2.75) 2(-3.502,2.25) 3(-3.502,1.75) 4(-3.502,1.25) 5(-3.502,0.75) 6(-3.502,0.25) 7(-3.502,-0.25) 8(-3.502,-0.75) 9(-3.502,-1.25) 10(-3.502,-1.75) 11(-3.502,-2.25) 12(-3.502,-2.75) 25(3.502,-2.75) 26(3.502,-2.25) 27(3.502,-1.75) 28(3.502,-1.25) 29(3.502,-0.75) 30(3.502,-0.25) 31(3.502,0.25) 32(3.502,0.75) 33(3.502,1.25) 34(3.502,1.75) 35(3.502,2.25) 36(3.502,2.75)
  rect 0.255x0.908 smd paste+0 mask+0: 13(-2.75,-3.502) 14(-2.25,-3.502) 15(-1.75,-3.502) 16(-1.25,-3.502) 17(-0.75,-3.502) 18(-0.25,-3.502) 19(0.25,-3.502) 20(0.75,-3.502) 21(1.25,-3.502) 22(1.75,-3.502) 23(2.25,-3.502) 24(2.75,-3.502) 37(2.75,3.502) 38(2.25,3.502) 39(1.75,3.502) 40(1.25,3.502) 41(0.75,3.502) 42(0.25,3.502) 43(-0.25,3.502) 44(-0.75,3.502) 45(-1.25,3.502) 46(-1.75,3.502) 47(-2.25,3.502) 48(-2.75,3.502)
  rect 5.69x5.69 smd paste-2.832 mask+0: 49(0,0)
Top Overlay:
  lines w0.152: -3.683,-3.21 -3.683,-3.683 -3.21,-3.683 ; -3.447,3.447 -3.683,3.683 ; 3.21,-3.683 3.683,-3.683 3.683,-3.21 ; 3.21,3.683 3.683,3.683 3.683,3.21 ; -3.683,3.21 -3.565,3.565 -3.21,3.683 ; -3.683,3.21 -3.21,3.683 ; -3.683,3.21 -3.683,3.683 ; -3.683,3.683 -3.21,3.683
  text "*" at -4.191,2.794 h1.27
Top Paste:
  region: -1.522,2.745 -2.745,2.745 -2.745,1.522 -1.522,1.522
  region: -1.522,1.322 -2.745,1.322 -2.745,0.1 -1.522,0.1
  region: -1.522,-0.1 -2.745,-0.1 -2.745,-1.322 -1.522,-1.322
  region: -1.522,-1.522 -2.745,-1.522 -2.745,-2.745 -1.522,-2.745
  region: -0.1,2.745 -1.322,2.745 -1.322,1.522 -0.1,1.522
  region: -0.1,1.322 -1.322,1.322 -1.322,0.1 -0.1,0.1
  region: -0.1,-0.1 -1.322,-0.1 -1.322,-1.322 -0.1,-1.322
  region: -0.1,-1.522 -1.322,-1.522 -1.322,-2.745 -0.1,-2.745
  region: 1.322,2.745 0.1,2.745 0.1,1.522 1.322,1.522
  region: 1.322,1.322 0.1,1.322 0.1,0.1 1.322,0.1
  region: 1.322,-0.1 0.1,-0.1 0.1,-1.322 1.322,-1.322
  region: 1.322,-1.522 0.1,-1.522 0.1,-2.745 1.322,-2.745
  region: 2.745,2.745 1.522,2.745 1.522,1.522 2.745,1.522
  region: 2.745,1.322 1.522,1.322 1.522,0.1 2.745,0.1
  region: 2.745,-0.1 1.522,-0.1 1.522,-1.322 2.745,-1.322
  region: 2.745,-1.522 1.522,-1.522 1.522,-2.745 2.745,-2.745
Assembly Notes:
  lines w0.025: -3.556,2.286 -2.286,3.556 ; -3.556,-3.556 3.556,-3.556 3.556,3.556 -3.556,3.556 -3.556,-3.556 ; -3.556,-2.902 -3.556,-2.598 -3.556,-2.902 ; -3.556,-2.402 -3.556,-2.098 -3.556,-2.402 ; -3.556,-1.902 -3.556,-1.598 -3.556,-1.902 ; -3.556,-1.402 -3.556,-1.098 -3.556,-1.402 ; -3.556,-0.902 -3.556,-0.598 -3.556,-0.902 ; -3.556,-0.402 -3.556,-0.098 -3.556,-0.402 ; -3.556,0.098 -3.556,0.402 -3.556,0.098 ; -3.556,0.598 -3.556,0.902 -3.556,0.598 ; -3.556,1.098 -3.556,1.402 -3.556,1.098 ; -3.556,1.598 -3.556,1.902 -3.556,1.598 ; -3.556,2.098 -3.556,2.402 -3.556,2.098 ; -3.556,2.598 -3.556,2.902 -3.556,2.598 ; -2.902,-3.556 -2.598,-3.556 -2.902,-3.556 ; -2.902,3.556 -2.598,3.556 -2.902,3.556 ; -2.402,-3.556 -2.098,-3.556 -2.402,-3.556 ; -2.402,3.556 -2.098,3.556 -2.402,3.556 ; -1.902,-3.556 -1.598,-3.556 -1.902,-3.556 ; -1.902,3.556 -1.598,3.556 -1.902,3.556 ; -1.402,-3.556 -1.098,-3.556 -1.402,-3.556 ; -1.402,3.556 -1.098,3.556 -1.402,3.556 ; -0.902,-3.556 -0.598,-3.556 -0.902,-3.556 ; -0.902,3.556 -0.598,3.556 -0.902,3.556 ; -0.402,-3.556 -0.098,-3.556 -0.402,-3.556 ; -0.402,3.556 -0.098,3.556 -0.402,3.556 ; 0.098,-3.556 0.402,-3.556 0.098,-3.556 ; 0.098,3.556 0.402,3.556 0.098,3.556 ; 0.598,-3.556 0.902,-3.556 0.598,-3.556 ; 0.598,3.556 0.902,3.556 0.598,3.556 ; 1.098,-3.556 1.402,-3.556 1.098,-3.556 ; 1.098,3.556 1.402,3.556 1.098,3.556 ; 1.598,-3.556 1.902,-3.556 1.598,-3.556 ; 1.598,3.556 1.902,3.556 1.598,3.556 ; 2.098,-3.556 2.402,-3.556 2.098,-3.556 ; 2.098,3.556 2.402,3.556 2.098,3.556 ; 2.598,-3.556 2.902,-3.556 2.598,-3.556 ; 2.598,3.556 2.902,3.556 2.598,3.556 ; 3.556,-2.902 3.556,-2.598 3.556,-2.902 ; 3.556,-2.402 3.556,-2.098 3.556,-2.402 ; 3.556,-1.902 3.556,-1.598 3.556,-1.902 ; 3.556,-1.402 3.556,-1.098 3.556,-1.402 ; 3.556,-0.902 3.556,-0.598 3.556,-0.902 ; 3.556,-0.402 3.556,-0.098 3.556,-0.402 ; 3.556,0.098 3.556,0.402 3.556,0.098 ; 3.556,0.598 3.556,0.902 3.556,0.598 ; 3.556,1.098 3.556,1.402 3.556,1.098 ; 3.556,1.598 3.556,1.902 3.556,1.598 ; 3.556,2.098 3.556,2.402 3.556,2.098 ; 3.556,2.598 3.556,2.902 3.556,2.598
Dimensions:
  lines w0.152: -4.464,-3.385 -4.064,-3.385 -4.064,-4.064 -3.385,-4.064 -3.385,-4.464 3.385,-4.464 3.385,-4.064 4.064,-4.064 4.064,-3.385 4.464,-3.385 4.464,3.385 4.064,3.385 4.064,4.064 3.385,4.064 3.385,4.464 -3.385,4.464 -3.385,4.064 -4.064,4.064 -4.064,3.385 -4.464,3.385 -4.464,-3.385
3D body "UFQFPN-48_7X7X0P55MM.step": height 0.61, standoff 0, extent -3.556,-3.556 3.556,3.556

## ST UFQFPN-48 7x7 N [mm]
pads (49):
  oval 0.808x0.255 smd paste+0 mask+0: 1(-3.452,2.75)
  rect 0.808x0.255 smd paste+0 mask+0: 2(-3.452,2.25) 3(-3.452,1.75) 4(-3.452,1.25) 5(-3.452,0.75) 6(-3.452,0.25) 7(-3.452,-0.25) 8(-3.452,-0.75) 9(-3.452,-1.25) 10(-3.452,-1.75) 11(-3.452,-2.25) 12(-3.452,-2.75) 25(3.452,-2.75) 26(3.452,-2.25) 27(3.452,-1.75) 28(3.452,-1.25) 29(3.452,-0.75) 30(3.452,-0.25) 31(3.452,0.25) 32(3.452,0.75) 33(3.452,1.25) 34(3.452,1.75) 35(3.452,2.25) 36(3.452,2.75)
  rect 0.255x0.808 smd paste+0 mask+0: 13(-2.75,-3.452) 14(-2.25,-3.452) 15(-1.75,-3.452) 16(-1.25,-3.452) 17(-0.75,-3.452) 18(-0.25,-3.452) 19(0.25,-3.452) 20(0.75,-3.452) 21(1.25,-3.452) 22(1.75,-3.452) 23(2.25,-3.452) 24(2.75,-3.452) 37(2.75,3.452) 38(2.25,3.452) 39(1.75,3.452) 40(1.25,3.452) 41(0.75,3.452) 42(0.25,3.452) 43(-0.25,3.452) 44(-0.75,3.452) 45(-1.25,3.452) 46(-1.75,3.452) 47(-2.25,3.452) 48(-2.75,3.452)
  rect 5.69x5.69 smd paste-2.832 mask+0: 49(0,0)
Top Overlay:
  lines w0.152: -3.683,-3.21 -3.683,-3.683 -3.21,-3.683 ; -3.683,3.447 -3.447,3.447 ; -3.447,3.683 -3.447,3.447 ; 3.21,-3.683 3.683,-3.683 3.683,-3.21 ; 3.21,3.683 3.683,3.683 3.683,3.21 ; -3.683,3.683 -3.447,3.447 ; -3.683,3.683 -3.683,3.21 -3.21,3.683 -3.683,3.683
  text "*" at -4.318,2.794 h1.27
Top Paste:
  region: 2.745,-1.522 1.522,-1.522 1.522,-2.745 2.745,-2.745
  region: 2.745,-0.1 1.522,-0.1 1.522,-1.322 2.745,-1.322
  region: 2.745,1.322 1.522,1.322 1.522,0.1 2.745,0.1
  region: 2.745,2.745 1.522,2.745 1.522,1.522 2.745,1.522
  region: 1.322,-1.522 0.1,-1.522 0.1,-2.745 1.322,-2.745
  region: 1.322,-0.1 0.1,-0.1 0.1,-1.322 1.322,-1.322
  region: 1.322,1.322 0.1,1.322 0.1,0.1 1.322,0.1
  region: 1.322,2.745 0.1,2.745 0.1,1.522 1.322,1.522
  region: -0.1,-1.522 -1.322,-1.522 -1.322,-2.745 -0.1,-2.745
  region: -0.1,-0.1 -1.322,-0.1 -1.322,-1.322 -0.1,-1.322
  region: -0.1,1.322 -1.322,1.322 -1.322,0.1 -0.1,0.1
  region: -0.1,2.745 -1.322,2.745 -1.322,1.522 -0.1,1.522
  region: -1.522,-1.522 -2.745,-1.522 -2.745,-2.745 -1.522,-2.745
  region: -1.522,-0.1 -2.745,-0.1 -2.745,-1.322 -1.522,-1.322
  region: -1.522,1.322 -2.745,1.322 -2.745,0.1 -1.522,0.1
  region: -1.522,2.745 -2.745,2.745 -2.745,1.522 -1.522,1.522
Assembly Notes:
  lines w0.025: -3.556,2.286 -2.286,3.556 ; -3.556,-3.556 -3.556,3.556 3.556,3.556 3.556,-3.556 -3.556,-3.556 ; -3.556,-2.902 -3.556,-2.598 -3.556,-2.902 ; -3.556,-2.402 -3.556,-2.098 -3.556,-2.402 ; -3.556,-1.902 -3.556,-1.598 -3.556,-1.902 ; -3.556,-1.402 -3.556,-1.098 -3.556,-1.402 ; -3.556,-0.902 -3.556,-0.598 -3.556,-0.902 ; -3.556,-0.402 -3.556,-0.098 -3.556,-0.402 ; -3.556,0.098 -3.556,0.402 -3.556,0.098 ; -3.556,0.598 -3.556,0.902 -3.556,0.598 ; -3.556,1.098 -3.556,1.402 -3.556,1.098 ; -3.556,1.598 -3.556,1.902 -3.556,1.598 ; -3.556,2.098 -3.556,2.402 -3.556,2.098 ; -3.556,2.598 -3.556,2.902 -3.556,2.598 ; -2.902,-3.556 -2.598,-3.556 -2.902,-3.556 ; -2.902,3.556 -2.598,3.556 -2.902,3.556 ; -2.402,-3.556 -2.098,-3.556 -2.402,-3.556 ; -2.402,3.556 -2.098,3.556 -2.402,3.556 ; -1.902,-3.556 -1.598,-3.556 -1.902,-3.556 ; -1.902,3.556 -1.598,3.556 -1.902,3.556 ; -1.402,-3.556 -1.098,-3.556 -1.402,-3.556 ; -1.402,3.556 -1.098,3.556 -1.402,3.556 ; -0.902,-3.556 -0.598,-3.556 -0.902,-3.556 ; -0.902,3.556 -0.598,3.556 -0.902,3.556 ; -0.402,-3.556 -0.098,-3.556 -0.402,-3.556 ; -0.402,3.556 -0.098,3.556 -0.402,3.556 ; 0.098,-3.556 0.402,-3.556 0.098,-3.556 ; 0.098,3.556 0.402,3.556 0.098,3.556 ; 0.598,-3.556 0.902,-3.556 0.598,-3.556 ; 0.598,3.556 0.902,3.556 0.598,3.556 ; 1.098,-3.556 1.402,-3.556 1.098,-3.556 ; 1.098,3.556 1.402,3.556 1.098,3.556 ; 1.598,-3.556 1.902,-3.556 1.598,-3.556 ; 1.598,3.556 1.902,3.556 1.598,3.556 ; 2.098,-3.556 2.402,-3.556 2.098,-3.556 ; 2.098,3.556 2.402,3.556 2.098,3.556 ; 2.598,-3.556 2.902,-3.556 2.598,-3.556 ; 2.598,3.556 2.902,3.556 2.598,3.556 ; 3.556,-2.902 3.556,-2.598 3.556,-2.902 ; 3.556,-2.402 3.556,-2.098 3.556,-2.402 ; 3.556,-1.902 3.556,-1.598 3.556,-1.902 ; 3.556,-1.402 3.556,-1.098 3.556,-1.402 ; 3.556,-0.902 3.556,-0.598 3.556,-0.902 ; 3.556,-0.402 3.556,-0.098 3.556,-0.402 ; 3.556,0.098 3.556,0.402 3.556,0.098 ; 3.556,0.598 3.556,0.902 3.556,0.598 ; 3.556,1.098 3.556,1.402 3.556,1.098 ; 3.556,1.598 3.556,1.902 3.556,1.598 ; 3.556,2.098 3.556,2.402 3.556,2.098 ; 3.556,2.598 3.556,2.902 3.556,2.598
Dimensions:
  lines w0.152: -4.11,-3.131 -4.11,3.131 -3.81,3.131 -3.81,3.81 -3.131,3.81 -3.131,4.11 3.131,4.11 3.131,3.81 3.81,3.81 3.81,3.131 4.11,3.131 4.11,-3.131 3.81,-3.131 3.81,-3.81 3.131,-3.81 3.131,-4.11 -3.131,-4.11 -3.131,-3.81 -3.81,-3.81 -3.81,-3.131 -4.11,-3.131
3D body "UFQFPN-48_7X7X0P55MM.step": height 0.61, standoff 0, extent -3.556,-3.556 3.556,3.556

## ST VFDFPN12L 3x3 L [mm]
pads (13):
  rect 0.708x0.255 smd paste+0 mask+0: 1(-1.345,1.125) 2(-1.345,0.675) 3(-1.345,0.225) 4(-1.345,-0.225) 5(-1.345,-0.675) 6(-1.345,-1.125) 7(1.345,-1.125) 8(1.345,-0.675) 9(1.345,-0.225) 10(1.345,0.225) 11(1.345,0.675) 12(1.345,1.125)
  rect 1.321x2.108 smd paste+0 mask+0: 13(0,0)
Top Overlay:
  circle w0.152: c-2.199,1.125 r0.102
  lines w0.152: -1.626,-1.626 1.626,-1.626 ; -1.475,1.625 -1.625,1.45 -1.626,1.626 1.626,1.626
Assembly Notes:
  circle w0: c-0.991,1.125 r0.076
  lines w0: -0.305,1.499 ccw(c0,1.499) 0.305,1.499
  lines w0.025: -1.499,-1.499 1.499,-1.499 1.499,1.499 -1.499,1.499 -1.499,-1.499
Dimensions:
  lines w0.152: -1.8,-1.354 -1.8,1.354 -1.6,1.354 -1.6,1.6 1.6,1.6 1.6,1.354 1.8,1.354 1.8,-1.354 1.6,-1.354 1.6,-1.6 -1.6,-1.6 -1.6,-1.354 -1.8,-1.354
3D body "VFDFPN12L_3X3X0P9_STM.step": height 0.99, standoff 0, extent -1.499,-1.499 1.499,1.499

## ST VFDFPN12L 3x3 M [mm]
pads (13):
  rect 0.908x0.255 smd paste+0 mask+0: 1(-1.445,1.125) 2(-1.445,0.675) 3(-1.445,0.225) 4(-1.445,-0.225) 5(-1.445,-0.675) 6(-1.445,-1.125) 7(1.445,-1.125) 8(1.445,-0.675) 9(1.445,-0.225) 10(1.445,0.225) 11(1.445,0.675) 12(1.445,1.125)
  rect 1.321x2.108 smd paste+0 mask+0: 13(0,0)
Top Overlay:
  circle w0.152: c-2.399,1.125 r0.102
  lines w0.152: -1.626,-1.626 1.626,-1.626 ; -1.475,1.625 -1.625,1.45 -1.626,1.626 1.626,1.626
Assembly Notes:
  circle w0: c-0.991,1.125 r0.076
  lines w0: -0.305,1.499 ccw(c0,1.499) 0.305,1.499
  lines w0.025: -1.499,-1.499 -1.499,1.499 1.499,1.499 1.499,-1.499 -1.499,-1.499
Dimensions:
  lines w0.152: -2.407,-1.76 -2.007,-1.76 -2.007,-2.007 2.007,-2.007 2.007,-1.76 2.407,-1.76 2.407,1.76 2.007,1.76 2.007,2.007 -2.007,2.007 -2.007,1.76 -2.407,1.76 -2.407,-1.76
3D body "VFDFPN12L_3X3X0P9_STM.step": height 0.99, standoff 0, extent -1.499,-1.499 1.499,1.499

## ST VFDFPN12L 3x3 N [mm]
pads (13):
  rect 0.808x0.255 smd paste+0 mask+0: 1(-1.395,1.125) 2(-1.395,0.675) 3(-1.395,0.225) 4(-1.395,-0.225) 5(-1.395,-0.675) 6(-1.395,-1.125) 7(1.395,-1.125) 8(1.395,-0.675) 9(1.395,-0.225) 10(1.395,0.225) 11(1.395,0.675) 12(1.395,1.125)
  rect 1.321x2.108 smd paste+0 mask+0: 13(0,0)
Top Overlay:
  circle w0.152: c-2.299,1.125 r0.102
  lines w0.152: -1.626,-1.626 1.626,-1.626 ; -1.475,1.625 -1.625,1.45 -1.626,1.626 1.626,1.626
Assembly Notes:
  circle w0: c-0.991,1.125 r0.076
  lines w0: -0.305,1.499 ccw(c0,1.499) 0.305,1.499
  lines w0.025: -1.499,-1.499 -1.499,1.499 1.499,1.499 1.499,-1.499 -1.499,-1.499
Dimensions:
  lines w0.152: -2.053,-1.506 -1.753,-1.506 -1.753,-1.753 1.753,-1.753 1.753,-1.506 2.053,-1.506 2.053,1.506 1.753,1.506 1.753,1.753 -1.753,1.753 -1.753,1.506 -2.053,1.506 -2.053,-1.506
3D body "VFDFPN12L_3X3X0P9_STM.step": height 0.99, standoff 0, extent -1.499,-1.499 1.499,1.499

## ST VFLGA-12 2x2x1 [mm]
height 1
pads (12):
  rect 0.375x0.35 smd paste+0 mask+0: 1(-0.763,0.75) 2(-0.763,0.25) 3(-0.763,-0.25) 4(-0.763,-0.75) 7(0.763,-0.75) 8(0.763,-0.25) 9(0.763,0.25) 10(0.763,0.75)
  rect 0.35x0.375 smd paste+0 mask+0: 5(-0.25,-0.763) 6(0.25,-0.763) 11(0.25,0.763) 12(-0.25,0.763)
Top Overlay:
  lines w0.2: -1.375,-1.375 -1.375,0.9 -0.9,1.375 1.375,1.375 1.375,-1.375 -1.375,-1.375
V Cut:
  lines w0.2: -1.575,-1.575 -1.575,1.575 1.575,1.575 1.575,-1.575 -1.575,-1.575
Top Component Outline:
  lines w0.2: -1.075,-1.075 -1.075,1.075 1.075,1.075 1.075,-1.075 -1.075,-1.075
Top Courtyard:
  lines w0.2: -1.575,-1.575 -1.575,1.575 1.575,1.575 1.575,-1.575 -1.575,-1.575
Bottom Courtyard:
  lines w0.1: -0.5,0 0.5,0 ; 0,-0.5 0,0.5
3D body "IC_STMicroelectronics_LIS3MDLTR_eec.STEP": height 0.25, standoff 0, extent -1.575,-1.575 1.575,1.575

## ST VFPDFN-10 [mm] "VFPDFN, 10-Leads, Body 3.00x3.00mm, Pitch 0.50mm, Thermal Pad 1.62x2.36mm, IPC Medium Density"
height 1
pads (11):
  oval 0.7x0.25 smd: 1(-1.5,1) 2(-1.5,0.5) 3(-1.5,0) 4(-1.5,-0.5) 5(-1.5,-1) 6(1.5,-1) 7(1.5,-0.5) 8(1.5,0) 9(1.5,0.5) 10(1.5,1)
  rect 1.65x2.36 smd: 11(0,0)
Top Overlay:
  circle w0.25: c-2.2,1.3 r0.125
  region: -1.65,1.65 -1.4,1.65 -1.65,1.4
  lines w0.2: -1.65,-1.4 -1.65,-1.65 1.65,-1.65 1.65,-1.4 ; -1.4,1.65 cw(c-1.65,1.65) -1.65,1.4 -1.65,1.65 1.65,1.65 1.65,1.4
Top Component Outline:
  circle w0.1: c-0.6,0.6 r0.5
  lines w0.1: -1.5,-1.5 1.5,-1.5 1.5,1.5 -1.5,1.5 -1.5,-1.5
Top Courtyard:
  lines w0.05: -2.075,-2.075 2.075,-2.075 2.075,2.075 -2.075,2.075 -2.075,-2.075
  lines w0.1: -0.5,0 0.5,0 ; 0,-0.5 0,0.5
3D body: height 1, standoff 0.01, extent -1.5,-1.5 1.5,1.5